# Altium schematic symbol library 8-1879216-4.SchLib: 1 symbol
Pins are listed as number, name and electrical type; pins without a type are passive.

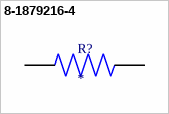
[diagram p0: symbol 8-1879216-4]

## 8-1879216-4
designator R?
CPF 0402 133K 0.1% 25PPM 5K RL; MP: 8-1879216-4; Package: None; Price: None; Value: *; Availability: Unavailable
footprint RESC1005X35N
pins: 1, 2